# EAGLE library part LPC1102 (library untitled)
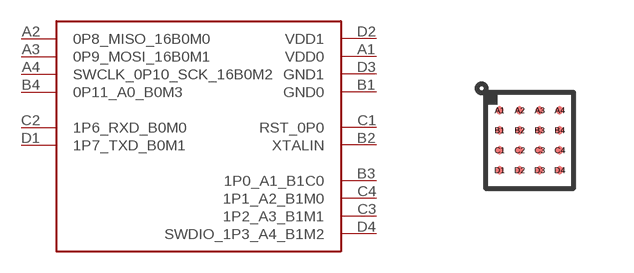
[diagram p14: symbol with the pads of WLCSP16; footprint WLCSP16]

Designator prefix -

## LPC1102  [WLCSP16]
A1  VDD0
A2  0P8_MISO_16B0M0
A3  0P9_MOSI_16B0M1
A4  SWCLK_0P10_SCK_16B0M2
B1  GND0
B2  XTALIN
B3  1P0_A1_B1C0
B4  0P11_A0_B0M3
C1  RST_0P0
C2  1P6_RXD_B0M0
C3  1P2_A3_B1M1
C4  1P1_A2_B1M0
D1  1P7_TXD_B0M1
D2  VDD1
D3  GND1
D4  SWDIO_1P3_A4_B1M2

## Footprint WLCSP16 (pad centres in mm)
smd 0.2 x 0.2: A1 -0.75,0.75; A2 -0.25,0.75; A3 0.25,0.75; A4 0.75,0.75; B1 -0.75,0.25; B2 -0.25,0.25; B3 0.25,0.25; B4 0.75,0.25; C1 -0.75,-0.25; C2 -0.25,-0.25; C3 0.25,-0.25; C4 0.75,-0.25; D1 -0.75,-0.75; D2 -0.25,-0.75; D3 0.25,-0.75; D4 0.75,-0.75